# EAGLE library part TDA1010A (library Audio-Power-amlifier V.2.0)
The TDA1010A is a monolithic integrated class-B audio amplifier circuit in a 9-lead single in-line (SIL) plastic package. The device is primarily developed as a 6 W car radio amplifier for use with 4 Wand 2 Wload impedances. The wide supply voltage range and the flexibility of the IC make it an attractive proposition for record players and tape recorders with output powers up to 10 W.
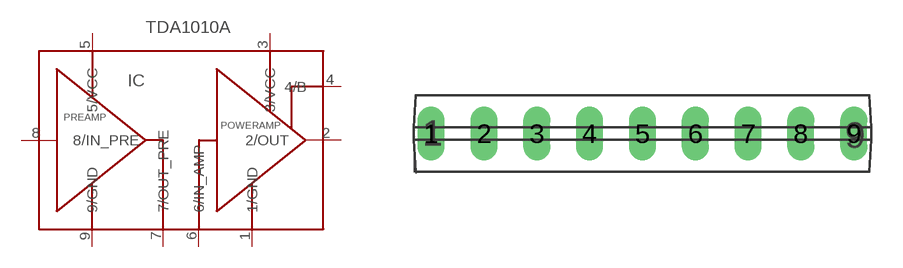
[diagram p111: symbol with the pads of SOT110-1; footprint SOT110-1]

Designator prefix IC

## TDA1010A  [SOT110-1]
1  1/GND  pwr
2  2/OUT  out
3  3/VCC  pwr
4  4/B
5  5/VCC  pwr
6  6/IN_AMP  in
7  7/OUT_PRE  out
8  8/IN_PRE  in
9  9/GND  pwr

## Footprint SOT110-1 (pad centres in mm)
SIL9MPF: plastic single in-line medium power package with fin; 9 leads
drill 0.8 long: 1 -10.16,0; 2 -7.62,0; 3 -5.08,0; 4 -2.54,0; 5 0,0; 6 2.54,0; 7 5.08,0; 8 7.62,0; 9 10.16,0